# Altium schematic symbol library PCD-lib.SchLib: 3 symbols
Pins are listed as number, name and electrical type; pins without a type are passive.

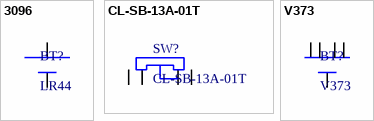
[diagram p0: symbols 3096 to V373]

## 3096
designator BT?, comment LR44
Supplier 1: Digi-Key; Supplier Part Number 1: 36-3096-ND
footprint 3096 (LR44)
pins: 1, 2

## CL-SB-13A-01T
designator SW?
SWITCH SLIDE SP3T 200MA 12V; Supplier 1: Digi-Key; Supplier Part Number 1: 563-1326-1-ND
footprint CL-SB-13A-01T
pins: 1, 2, 3, 4

## V373
designator BT?
footprint V373
pins: 1, 2, 3, 4, 5